# EAGLE library part PIN_HEADER_MALE_L_2X05_10P (library 180118 Library by matsu)
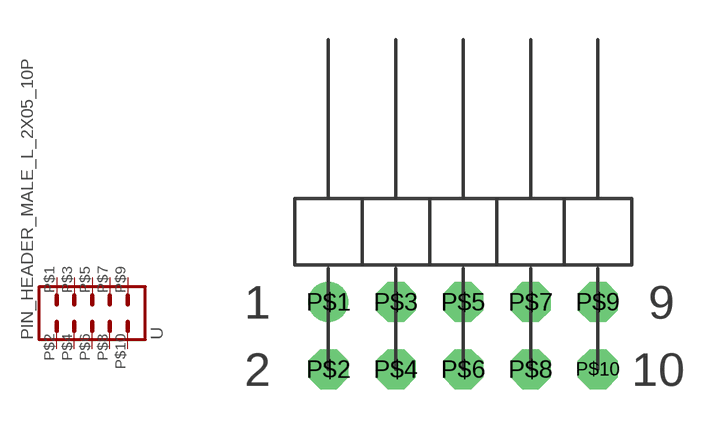
[diagram p12: symbol with the pads of PIN_HEADER_MALE_L_2X05_10P; footprint PIN_HEADER_MALE_L_2X05_10P]

Designator prefix -

## PIN_HEADER_MALE_L_2X05_10P  [PIN_HEADER_MALE_L_2X05_10P]
P$1  P$1
P$2  P$2
P$3  P$3
P$4  P$4
P$5  P$5
P$6  P$6
P$7  P$7
P$8  P$8
P$9  P$9
P$10  P$10

## Footprint PIN_HEADER_MALE_L_2X05_10P (pad centres in mm)
drill 1: P$1 -5.08,1.27
drill 1 octagon: P$2 -5.08,-1.27; P$3 -2.54,1.27; P$4 -2.54,-1.27; P$5 0,1.27; P$6 0,-1.27; P$7 2.54,1.27; P$8 2.54,-1.27; P$9 5.08,1.27; P$10 5.08,-1.27